# Altium schematic symbol library Schlib1.SchLib: 6 symbols
Pins are listed as number, name and electrical type; pins without a type are passive.

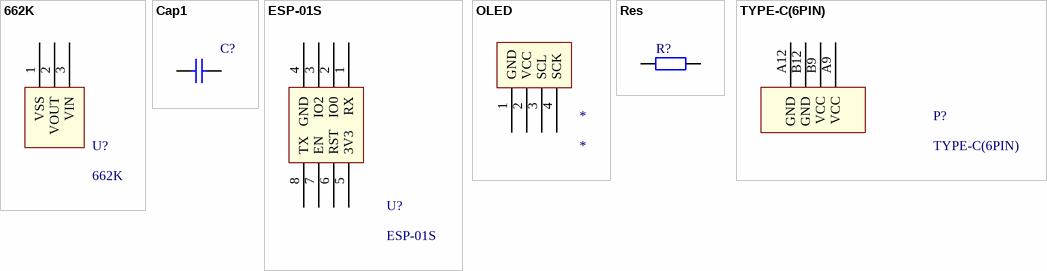
[diagram p0: symbols 662K to TYPE-C(6PIN)]

## 662K
designator U?
footprint SOT23-3N (3x1.3x1mm(长宽高))
pins: 1 VSS, 2 VOUT, 3 VIN

## Cap1
designator C?
无极性电容
footprint C 0805 (贴片带丝印)
pins: 1, 2

## ESP-01S
designator U?
footprint ESP-01&01S Module
pins: 1 RX, 2 IO0, 3 IO2, 4 GND, 5 3V3, 6 RST, 7 EN, 8 TX

## OLED
designator *
footprint P4
pins: 1 GND, 2 VCC, 3 SCL, 4 SCK

## Res
designator R?, comment 10K  (value not drawn)
电阻; value: 10K
footprint R 0805 (贴片带丝印)
pins: 1, 2

## TYPE-C(6PIN)
designator P?
footprint USB-C/S_C (Type-C 6P母座)
pins: A9 VCC, A12 GND, B9 VCC, B12 GND